# Altium schematic symbol library IPBT-102-H1-T-S-RA-K.SchLib: 1 symbol
Pins are listed as number, name and electrical type; pins without a type are passive.

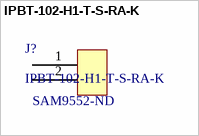
[diagram p0: symbol IPBT-102-H1-T-S-RA-K]

## IPBT-102-H1-T-S-RA-K
designator J?  Supplier Part Number 1: SAM9552-ND
Samtec Connector Through Hole, Right Angle 2 pos 0.165" (4.20mm) pitch; Supplier 1: Digi-Key
footprint SAM9552-ND (Samtec Connector Through Hole, Right Angle 2 pos 0.165" (4.20mm) pitch)
pins: 1, 2